# Altium schematic symbol library Capacitors.SchLib: 121 symbols (part 2 of 2)
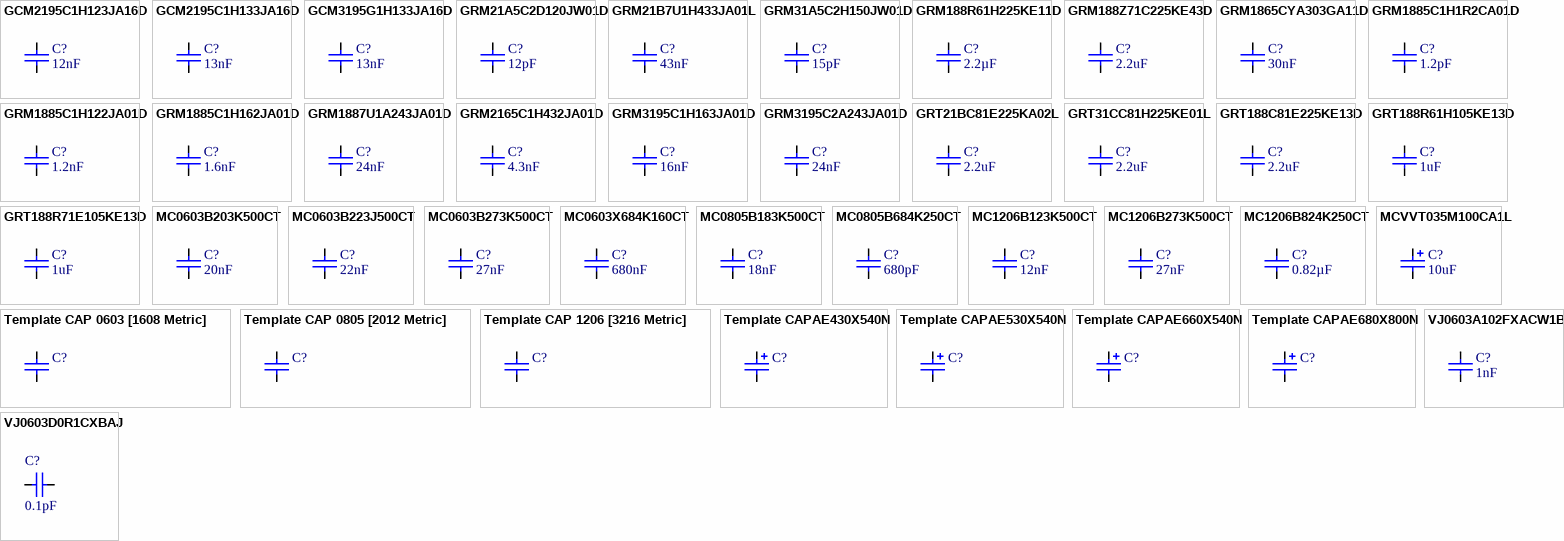
[diagram p4: symbols GCM2195C1H123JA16D to VJ0603D0R1CXBAJ]

## GRM31A5C2H150JW01D
designator C?, comment 15pF
CAP MLCC, 15pF, 25V, 1206 [3216 Metric], ±5%, X7R; Manufacturer: MURATA; Manufacturer Part Number: GRM31A5C2H150JW01D; Voltage: 500V; Dielectric: C0G / NP0; Value: 15pF; Package: 1206 [3216 Metric]; Supplier 1: Farnell; Supplier Part Number 1: 3340795; ComponentLink1Description: http://www.farnell.com/datasheets/2891925.pdf; ComponentLink1URL: https://lt.farnell.com/murata/grm31a5c2h150jw01d/cap-15pf-500v-mlcc-1206/dp/3340795; Tolerance: ± 5%; Mounting: SMD; Part Type: MLCC
footprint CAPC3216N (Chip Capacitor, Body 3.2x1.6mm, IPC Medium Density)
pins: 1, 2

## GRM188R61H225KE11D
designator C?, comment 2.2µF
CAP MLCC, 2.2 µF, 50V, 0603 [1608 Metric], ± 10%, X5R, GRM Series; Manufacturer: MURATA; Manufacturer Part Number: GRM188R61H225KE11D; Value: 2.2µF; Package: 0603 [1608 Metric]; Supplier 1: Farnell; Supplier Part Number 1: 2611925; ComponentLink1Description: Datasheet; ComponentLink1URL: https://lt.farnell.com/murata/grm188r61h225ke11d/cap-2-2-f-50v-10-x5r-0603/dp/2611925?st=capasitor; Voltage: 50V; Tolerance: ± 10%; Dielectric: X5R; Mounting: SMD; Part Type: MLCC
footprint CAPC1608N (Chip Capacitor, Body 1.6x0.8mm, Height 0.55mm, IPC Medium Density)
pins: 1, 2

## GRM188Z71C225KE43D
designator C?, comment 2.2uF
CAP MLCC, 2.2uF, 16V, 0603 [1608 Metric], ±10%, X7R; Manufacturer: MURATA; Manufacturer Part Number: GRM188Z71C225KE43D; Value: 2.2uF; Package: 0603 [1608 Metric]; Supplier 1: Farnell; Supplier Part Number 1: 3581383; ComponentLink1Description: Datasheet; ComponentLink1URL: https://4donline.ihs.com/images/VipMasterIC/IC/MURE/MURE-S-A0010565743/MURE-S-A0010565293-1.pdf?hkey=6D3A4C79FDBF58556ACFDE234799DDF0; Voltage: 16V; Tolerance: ± 10%; Dielectric: X7R; Mounting: SMD; Part Type: MLCC
footprint CAPC1608N (Chip Capacitor, Body 1.6x0.8mm, Height 0.55mm, IPC Medium Density)
pins: 1, 2

## GRM1865CYA303GA11D
designator C?, comment 30nF
CAP MLCC, 30nF, 35V, 0603 [1608 metric], ±2%, C0G; Manufacturer: Murata Electronics; Manufacturer Part Number: GRM1865CYA303GA11D; Dielectric: C0G (NP0); Value: 30nF; Package: 0603 [1608 Metric]; Supplier 1: Mouser; Supplier Part Number 1: 81-GRM1865CYA303GA1D; ComponentLink1Description: Datasheet; ComponentLink1URL: https://eu.mouser.com/datasheet/2/281/murata_03052018_GRM_Series_1-1310166.pdf; Voltage: 35V; Tolerance: 2%; Mounting: SMD; Part Type: MLCC
footprint CAPC1608N (Chip Capacitor, Body 1.6x0.8mm, Height 0.55mm, IPC Medium Density)
pins: 1, 2

## GRM1885C1H1R2CA01D
designator C?, comment 1.2pF
CAP MLCC, 1.2pF, 50V, 0603 [1608 Metric], ±0.25pF, X7R; Manufacturer: MULTICOMP; Manufacturer Part Number: GRM1885C1H1R2CA01D; Dielectric: C0G / NP0; Value: 1.2pF; Package: 0603 [1608 Metric]; Supplier 1: Farnell; Supplier Part Number 1: 2494217; ComponentLink1Description: http://www.farnell.com/datasheets/1955666.pdf; ComponentLink1URL: https://lt.farnell.com/murata/grm1885c1h1r2ca01d/cap-1-2pf-50v-c0g-np0-0603/dp/2494217; Voltage: 50V; Tolerance: ± 0.25pF; Mounting: SMD; Part Type: MLCC
footprint CAPC1608N (Chip Capacitor, Body 1.6x0.8mm, Height 0.55mm, IPC Medium Density)
pins: 1, 2

## GRM1885C1H122JA01D
designator C?, comment 1.2nF
CAP MLCC, 1.2nF, 50V, 0603 [1608 Metric], ±5%, C0G / NP0; Manufacturer: MURATA; Manufacturer Part Number: GRM1885C1H122JA01D; Value: 1.2nF; Package: 0603 [1608 Metric]; Supplier 1: Farnell; Supplier Part Number 1: 2688627; ComponentLink1Description: Datasheet; ComponentLink1URL: http://www.farnell.com/datasheets/2191627.pdf; Voltage: 50V; Tolerance: ± 5%; Dielectric: C0G / NP0; Mounting: SMD; Part Type: MLCC
footprint CAPC1608N (Chip Capacitor, Body 1.6x0.8mm, Height 0.55mm, IPC Medium Density)
pins: 1, 2

## GRM1885C1H162JA01D
designator C?, comment 1.6nF
CAP MLCC, 1.6nF, 50V, 0603 [1608 Metric], ±5%, C0G / NP0; Manufacturer: MURATA; Manufacturer Part Number: GRM1885C1H162JA01D; Value: 1.6nF; Package: 0603 [1608 Metric]; Supplier 1: Farnell; Supplier Part Number 1: 3582826; ComponentLink1Description: Datasheet; ComponentLink1URL: https://4donline.ihs.com/images/VipMasterIC/IC/MURE/MURE-S-A0010570236/MURE-S-A0010570623-1.pdf?hkey=6D3A4C79FDBF58556ACFDE234799DDF0; Voltage: 50V; Tolerance: ± 5%; Dielectric: C0G / NP0; Mounting: SMD; Part Type: MLCC
footprint CAPC1608N (Chip Capacitor, Body 1.6x0.8mm, Height 0.55mm, IPC Medium Density)
pins: 1, 2

## GRM1887U1A243JA01D
designator C?, comment 24nF
CAP MLCC, 24nF, 100V, 0603 [1608 Metric], ±5%, U2J; Manufacturer: Murata Electronics; Manufacturer Part Number: GRM1887U1A243JA01D; Voltage: 10V; Value: 24nF; Package: 0603 [1608 Metric]; Supplier 1: Mouser; Supplier Part Number 1: 81-GRM1887U1A243JA1D; ComponentLink1Description: Datasheet; ComponentLink1URL: https://eu.mouser.com/ProductDetail/Murata-Electronics/GRM1887U1A243JA01D/?qs=ui%252B2d9lVEI5YGHIEW3U78Q%3D%3D; Tolerance: ± 5%; Dielectric: U2J; Mounting: SMD; Part Type: MLCC
footprint CAPC1608N (Footprint not found)
pins: 1, 2

## GRM2165C1H432JA01D
designator C?, comment 4.3nF
CAP MLCC, 4.3nF, 250V, 0805 [2012 Metric], ±5%, C0G / NP0; Manufacturer: MURATA; Manufacturer Part Number: GRM2165C1H432JA01D; Voltage: 50V; Value: 4.3nF; Package: 0805 [2012 Metric]; Supplier 1: Farnell; Supplier Part Number 1: 3581388; ComponentLink1Description: Datasheet; ComponentLink1URL: https://4donline.ihs.com/images/VipMasterIC/IC/MURE/MURE-S-A0010861478/MURE-S-A0010860847-1.pdf?hkey=6D3A4C79FDBF58556ACFDE234799DDF0; Tolerance: ± 5%; Dielectric: C0G / NP0; Mounting: SMD; Part Type: MLCC
footprint CAPC2012N (Chip Capacitor, Body 2.0x1.25mm, IPC Medium Density)
pins: 1, 2

## GRM3195C1H163JA01D
designator C?, comment 16nF
CAP MLCC, 16nF, 25V, 1206 [3216 metric], ±5%, C0G (NP0); Manufacturer: Murata Electronics; Manufacturer Part Number: GRM3195C1H163JA01D; Voltage: 50V; Value: 16nF; Package: 1206 [3216 metric]; Supplier 1: Mouser; Supplier Part Number 1: 81-GRM3195C1H163JA1D; ComponentLink1Description: Datasheet; ComponentLink1URL: https://eu.mouser.com/ProductDetail/Murata-Electronics/GRM3195C1H163JA01D/?qs=h0WOCFF19UJX1ximIlpUQQ%3D%3D; Tolerance: ±5%; Dielectric: C0G (NP0)
footprint CAPC3216N (Chip Capacitor, Body 3.2x1.6mm, IPC Medium Density)
pins: 1, 2

## GRM3195C2A243JA01D
designator C?, comment 24nF
CAP MLCC, 24nF, 100V, 1206 [3216 Metric], ± 5%, C0G (NP0); Manufacturer: Murata; Manufacturer Part Number: GRM3195C2A243JA01D; Value: 24nF; Package: 1206 [3216 Metric]; Supplier 1: Mouser; Supplier Part Number 1: 81-GRM3195C2A243JA1D; ComponentLink1Description: Datasheet; ComponentLink1URL: https://eu.mouser.com/ProductDetail/Murata-Electronics/GRM3195C2A243JA01D/?qs=qkDYIeTQ%252BEk%2Fn3fDsYoCdQ%3D%3D; Voltage: 100V; Tolerance: ± 5%; Dielectric: C0G (NP0); Mounting: SMD; Part Type: MLCC
footprint CAPC3216N (Footprint not found)
pins: 1, 2

## GRT21BC81E225KA02L
designator C?, comment 2.2uF
CAP MLCC, 2.2uF, 25V, 0805 [2012 Metric], ±10%, X6S; Manufacturer: MURATA; Manufacturer Part Number: GRT21BC81E225KA02L; Value: 2.2uF; Package: 0805 [2012 Metric]; Supplier 1: Farnell; Supplier Part Number 1: 2672181RL; ComponentLink1Description: Datasheet; ComponentLink1URL: http://www.farnell.com/datasheets/2165980.pdf; Voltage: 25V; Tolerance: ± 10%; Dielectric: X6S; Mounting: SMD; Part Type: MLCC
footprint CAPC2012N (Chip Capacitor, Body 2.0x1.25mm, IPC Medium Density)
pins: 1, 2

## GRT31CC81H225KE01L
designator C?, comment 2.2uF
CAP MLCC, 2.2uF, 50V, 1206 [3216 Metric], ±10%, X6S; Manufacturer: MURATA; Manufacturer Part Number: GRT31CC81H225KE01L; Value: 2.2uF; Package: 1206 [3216 Metric]; Supplier 1: Farnell; Supplier Part Number 1: 2672206; ComponentLink1Description: Datasheet; ComponentLink1URL: http://www.farnell.com/datasheets/2166004.pdf; Voltage: 50V; Tolerance: ± 10%; Dielectric: X6S; Mounting: SMD; Part Type: MLCC
footprint CAPC3216N (Chip Capacitor, Body 3.2x1.6mm, IPC Medium Density)
pins: 1, 2

## GRT188C81E225KE13D
designator C?, comment 2.2uF
CAP MLCC, 2.2uF, 25V, 0603 [1608 Metric], ±10%, X6S; Manufacturer: MURATA; Manufacturer Part Number: GRT188C81E225KE13D; Value: 2.2uF; Package: 0603 [1608 Metric]; Supplier 1: Farnell; Supplier Part Number 1: 2672150; ComponentLink1Description: Datasheet; ComponentLink1URL: http://www.farnell.com/datasheets/2165949.pdf; Voltage: 25V; Tolerance: ± 10%; Dielectric: X6S; Mounting: SMD; Part Type: MLCC
footprint CAPC1608N (Chip Capacitor, Body 1.6x0.8mm, Height 0.55mm, IPC Medium Density)
pins: 1, 2

## GRT188R61H105KE13D
designator C?, comment 1uF
CAP MLCC, 1uF, 50V, 0603 [1608 Metric], ±10%, X5R; Manufacturer: MURATA; Manufacturer Part Number: GRT188R61H105KE13D; Value: 1uF; Package: 0603 [1608 Metric]; Supplier 1: Farnell; Supplier Part Number 1: 3581821; ComponentLink1Description: Datasheet; ComponentLink1URL: https://4donline.ihs.com/images/VipMasterIC/IC/MURE/MURE-S-A0010859401/MURE-S-A0010860617-1.pdf?hkey=6D3A4C79FDBF58556ACFDE234799DDF0; Voltage: 50V; Tolerance: ± 10%; Dielectric: X5R; Mounting: SMD; Part Type: MLCC
footprint CAPC1608N (Chip Capacitor, Body 1.6x0.8mm, Height 0.55mm, IPC Medium Density)
pins: 1, 2

## GRT188R71E105KE13D
designator C?, comment 1uF
CAP MLCC, 1uF, 25V, 0603 [1608 Metric], ±10%, X7R; Manufacturer: Murata; Manufacturer Part Number: GRT188R71E105KE13D; Dielectric: C0G / NP0; Value: 1uF; Package: 0603 [1608 Metric]; Supplier 1: Farnell; Supplier Part Number 1: 2672163; ComponentLink1Description: Datasheet; ComponentLink1URL: https://4donline.ihs.com/images/VipMasterIC/IC/MURE/MURE-S-A0010854894/MURE-S-A0010852229-1.pdf?hkey=6D3A4C79FDBF58556ACFDE234799DDF0; Voltage: 25V; Tolerance: ± 10%; Mounting: SMD; Part Type: MLCC
footprint CAPC1608N (Chip Capacitor, Body 1.6x0.8mm, Height 0.55mm, IPC Medium Density)
pins: 1, 2

## MC0603B203K500CT
designator C?, comment 20nF
CAP MLCC, 20nF, 50V, 0603 [1608 Metric], ±10%, X7R; Manufacturer: MULTICOMP PRO; Manufacturer Part Number: MC0603B203K500CT; Value: 20nF; Package: 0603 [1608 Metric]; Supplier 1: Farnell; Supplier Part Number 1: 2627435; ComponentLink1Description: Datasheet; ComponentLink1URL: http://www.farnell.com/datasheets/2861120.pdf; Voltage: 50V; Tolerance: ± 10%; Dielectric: X7R; Mounting: SMD; Part Type: MLCC
footprint CAPC1608N (Chip Capacitor, Body 1.6x0.8mm, Height 0.55mm, IPC Medium Density)
pins: 1, 2

## MC0603B223J500CT
designator C?, comment 22nF
CAP MLCC, 22nF, 50V, 0603 [1608 Metric], ±5%, X7R; Manufacturer: MULTICOMP PRO; Manufacturer Part Number: MC0603B223J500CT; Value: 22nF; Package: 0603 [1608 Metric]; Supplier 1: Farnell; Supplier Part Number 1: 2627436; ComponentLink1Description: Datasheet; ComponentLink1URL: http://www.farnell.com/datasheets/2861120.pdf; Voltage: 50V; Tolerance: ± 5%; Dielectric: X7R; Mounting: SMD; Part Type: MLCC
footprint CAPC1608N (Chip Capacitor, Body 1.6x0.8mm, Height 0.55mm, IPC Medium Density)
pins: 1, 2

## MC0603B273K500CT
designator C?, comment 27nF
CAP MLCC, 27nF, 50V, 0603 [1608 Metric], ±10%, X7R; Manufacturer: MULTICOMP PRO; Manufacturer Part Number: MC0603B273K500CT; Value: 27nF; Package: 0603 [1608 Metric]; Supplier 1: Farnell; Supplier Part Number 1: 1759111; ComponentLink1Description: Datasheet; ComponentLink1URL: http://www.farnell.com/datasheets/2860632.pdf; Voltage: 50V; Tolerance: ± 10%; Dielectric: X7R; Mounting: SMD; Part Type: MLCC
footprint CAPC1608N (Chip Capacitor, Body 1.6x0.8mm, Height 0.55mm, IPC Medium Density)
pins: 1, 2

## MC0603X684K160CT
designator C?, comment 680nF
CAP MLCC, 680nF, 16V, 0603 [1608 Metric], ±10%, X5R; Manufacturer: MULTICOMP PRO; Manufacturer Part Number: MC0603X684K160CT; Value: 680nF; Package: 0603 [1608 Metric]; Supplier 1: Farnell; Supplier Part Number 1: 2665946; ComponentLink1Description: Datasheet; ComponentLink1URL: https://lt.farnell.com/multicomp/mc0603x684k160ct/cap-0-68-f-16v-10-x5r-0603-reel/dp/2665946; Voltage: 16V; Tolerance: ± 10%; Dielectric: X5R; Mounting: SMD; Part Type: MLCC
footprint CAPC1608N (Chip Capacitor, Body 1.6x0.8mm, Height 0.55mm, IPC Medium Density)
pins: 1, 2

## MC0805B183K500CT
designator C?, comment 18nF
CAP MLCC, 18nF, 50V, 0805 [2012 Metric], ± 10%, X7R, MC Series; Manufacturer: MULTICOMP PRO; Manufacturer Part Number: MC0805B183K500CT; Value: 18nF; Package: 0805 [2012 Metric]; Supplier 1: Farnell; Supplier Part Number 1: 1759251; ComponentLink1Description: Datasheet; ComponentLink1URL: http://www.farnell.com/datasheets/1870456.pdf; Voltage: 50V; Tolerance: ± 10%; Dielectric: X7R; Mounting: SMD; Part Type: MLCC
footprint CAPC2012N (Chip Capacitor, Body 2.0x1.25mm, IPC Medium Density)
pins: 1, 2

## MC0805B684K250CT
designator C?, comment 680pF
CAP MLCC, 680nF, 25V, 0805 [2012 Metric], ±10%, X7R; Manufacturer: MULTICOMP PRO; Manufacturer Part Number: MC0805B684K250CT; Value: 680pF; Package: 0805 [2012 Metric]; Supplier 1: Farnell; Supplier Part Number 1: 2627483; ComponentLink1Description: http://www.farnell.com/datasheets/2861120.pdf; ComponentLink1URL: https://lt.farnell.com/multicomp/mc0805b684k250ct/cap-0-68-f-25v-10-x7r-0805/dp/2627483?st=cap%20mlcc,%20680nf,%2025v,%200805%20[2012%20metric],%20±10%25,%20x7r; Voltage: 25V; Tolerance: ± 10%; Dielectric: X7R; Mounting: SMD; Part Type: MLCC
footprint CAPC2012N (Chip Capacitor, Body 2.0x1.25mm, IPC Medium Density)
pins: 1, 2

## MC1206B123K500CT
designator C?, comment 12nF
CAP MLCC, 12nF, 50V, 1206 [3216 Metric], ± 10%, X7R; Manufacturer: MULTICOMP PRO; Manufacturer Part Number: MC1206B123K500CT; Value: 12nF; Package: 1206 [3216 Metric]; Supplier 1: Farnell; Supplier Part Number 1: 1759351; ComponentLink1Description: Datasheet; ComponentLink1URL: https://lt.farnell.com/multicomp/mc1206b123k500ct/cap-0-012-f-50v-10-x7r-1206/dp/1759351?st=1206; Voltage: 50V; Tolerance: ± 10%; Dielectric: X7R; Mounting: SMD; Part Type: MLCC
footprint CAPC3216N (Chip Capacitor, Body 3.2x1.6mm, IPC Medium Density)
pins: 1, 2

## MC1206B273K500CT
designator C?, comment 27nF
CAP MLCC, 27nF, 50V, 1206 [3216 Metric], ±10%, X7R; Manufacturer: MULTICOMP PRO; Manufacturer Part Number: MC1206B273K500CT; Value: 27nF; Package: 1206 [3216 Metric]; Supplier 1: Farnell; Supplier Part Number 1: 1759355; ComponentLink1Description: Datasheet; ComponentLink1URL: http://www.farnell.com/datasheets/2860632.pdf; Voltage: 50V; Tolerance: ± 10%; Dielectric: X7R; Mounting: SMD; Part Type: MLCC
footprint CAPC3216N (Chip Capacitor, Body 3.2x1.6mm, IPC Medium Density)
pins: 1, 2

## MC1206B824K250CT
designator C?, comment 0.82µF
CAP MLCC, 0.82µF, 25V, 1206 [3216 Metric], ±10%, X7R; Manufacturer: MULTICOMP PRO; Manufacturer Part Number: MC1206B824K250CT; Value: 0.82µF; Package: 1206 [3216 Metric]; Supplier 1: Farnell; Supplier Part Number 1: 1759326; ComponentLink1Description: http://www.farnell.com/datasheets/2860632.pdf; ComponentLink1URL: https://lt.farnell.com/multicomp/mc1206b824k250ct/cap-0-82-f-25v-10-x7r-1206/dp/1759326?st=cap%20mlcc,%20820nf,%2025v,%201206%20[3216%20metric],%20±10%25,%20x7r; Voltage: 25V; Tolerance: ± 10%; Dielectric: X7R; Mounting: SMD; Part Type: MLCC
footprint CAPC3216N (Chip Capacitor, Body 3.2x1.6mm, IPC Medium Density)
pins: 1, 2

## MCVVT035M100CA1L
designator C?, comment 10uF
CAP Aluminium Electrolytic, 10uF, 35V, 4.3mm L x 4.3mm W x W 5.4mm H; Manufacturer: MULTICOMP PRO; Manufacturer Part Number: MCVVT035M100CA1L; Value: 10uF; Package: 4.3mm L x 4.3mm W x W 5.4mm H; Supplier 1: Farnell; Supplier Part Number 1: 2611379; ComponentLink1Description: Datasheet; ComponentLink1URL: http://www.farnell.com/datasheets/2873546.pdf; Voltage: 35V; Dielectric: Aluminium; Mounting: SMD; Part Type: Electrolytic
footprint CAPAE430X540N (Capacitor, Aluminium Electrolytric, 4.3mm L X 4.3mm W X 5.4mm H, IPC Medium Density)
pins: 1, 2

## Template CAP 0603 [1608 Metric]
designator C?
CAP MLCC, 100nF, 25V, 0603 [1608 Metric], ±10%, X7R; Package: 0603 [1608 Metric]; ComponentLink1Description: Datasheet; Mounting: SMD; Part Type: MLCC
footprint CAPC1608N (Chip Capacitor, Body 1.6x0.8mm, Height 0.55mm, IPC Medium Density)
pins: 1, 2

## Template CAP 0805 [2012 Metric]
designator C?
CAP MLCC, 100nF, 25V, 0805 [2012 Metric], ±10%, X7R; Package: 0805 [2012 Metric]; ComponentLink1Description: Datasheet; Mounting: SMD; Part Type: MLCC
footprint CAPC2012N (Chip Capacitor, Body 2.0x1.25mm, IPC Medium Density)
pins: 1, 2

## Template CAP 1206 [3216 Metric]
designator C?
CAP MLCC, 100nF, 25V, 1206 [3216 Metric], ±10%, X7R; Package: 1206 [3216 Metric]; ComponentLink1Description: Datasheet; Mounting: SMD; Part Type: MLCC
footprint CAPC3216N (Chip Capacitor, Body 3.2x1.6mm, IPC Medium Density)
pins: 1, 2

## Template CAPAE430X540N
designator C?
CAP Aluminium Electrolytic, 10uF, 35V, 4.3mm L x 4.3mm W x W 5.4mm H; Package: 4.3mm L x 4.3mm W x W 5.4mm H; ComponentLink1Description: Datasheet; Dielectric: Aluminium; Mounting: SMD; Part Type: Electrolytic
footprint CAPAE430X540N (Capacitor, Aluminium Electrolytric, 4.3mm L X 4.3mm W X 5.4mm H, IPC Medium Density)
pins: 1, 2

## Template CAPAE530X540N
designator C?
CAP Aluminium Electrolytic, 10uF, 35V, 5.3mm L X 5.3mm W X 5.4mm H; Package: 5.3mm L X 5.3mm W X 5.4mm H; ComponentLink1Description: Datasheet; Dielectric: Aluminium; Mounting: SMD; Part Type: Electrolytic
footprint CAPAE530X540N (Capacitor, Aluminium Electrolytric, 5.3mm L X 5.3mm W X 5.4mm H, IPC Medium Density)
pins: 1, 2

## Template CAPAE660X540N
designator C?
CAP Aluminium Electrolytic, 10uF, 35V, 6.6mm L X 6.6mm W X 5.4mm H; Package: 6.6mm L X 6.6mm W X 5.4mm H; ComponentLink1Description: Datasheet; Dielectric: Aluminium; Mounting: SMD; Part Type: Electrolytic
footprint CAPAE660X540N (Capacitor, Aluminium Electrolytric, 6.6mm L X 6.6mm W X 5.4mm H, IPC Medium Density)
pins: 1, 2

## Template CAPAE680X800N
designator C?
CAP Aluminium Electrolytic, 10uF, 35V, 6.8mm L X 6.8mm W X 8mm H; Package: 6.8mm L X 6.8mm W X 8mm H; ComponentLink1Description: Datasheet; Dielectric: Aluminium; Mounting: SMD; Part Type: Electrolytic
footprint CAPAE680X800N (Capacitor, Aluminium Electrolytric, 6.8mm L X 6.8mm W X 8mm H, IPC Medium Density)
pins: 1, 2

## VJ0603A102FXACW1BC
designator C?, comment 1nF
CAP MLCC, 1nF, 50 V, 0603 [1608 Metric], ± 1%, C0G / NP0, VJ Series; Manufacturer: VISHAY; Manufacturer Part Number: VJ0603A102FXACW1BC; Voltage: 50V; Value: 1nF; Package: 0603 [1608 Metric]; Supplier 1: FARNELL; Supplier Part Number 1: 2896361; ComponentLink1Description: http://www.farnell.com/datasheets/2620235.pdf; ComponentLink1URL: https://lt.farnell.com/vishay/vj0603a102fxacw1bc/cap-1000pf-50v-1-c0g-np0-0603/dp/2896361?st=1nF; Tolerance: ± 1%; Dielectric: C0G / NP0; Mounting: SMD; Part Type: MLCC
footprint CAPC1608N (Chip Capacitor, Body 1.6x0.8mm, Height 0.55mm, IPC Medium Density)
pins: 1, 2

## VJ0603D0R1CXBAJ
designator C?, comment 0.1pF
CAP MLCC, 0.1pF, 100V, 0603 [1608 Metric], ±0.25pF, C0G (NP0); Manufacturer: Vishay / Vitramon; Manufacturer Part Number: VJ0603D0R1CXBAJ; Voltage: 100 VDC; Value: 0.1pF; Supplier 1: Mouser; Supplier Part Number 1: 77-VJ0603D0R1CXBAJ; Tollerance: ±0.25pF; Package: 0603 [1608 Metric]; Part Type: High Frequency MLCC; ComponentLink1Description: Datasheet; ComponentLink1URL: https://eu.mouser.com/datasheet/2/427/vjhifreq-1391225.pdf; Mounting: SMD/SMT; Dialectric: C0G (NP0)
footprint RESC1608N (Chip Resistor, Body 1.6x0.8mm, IPC Medium Density)
pins: 1, 2
1 alternate drawing of the same symbol

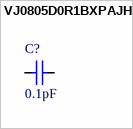
[diagram p3: symbol VJ0805D0R1BXPAJHT]

## VJ0805D0R1BXPAJHT
designator C?, comment 0.1pF
CAP MLCC, 0.1pF, 200V, 0805 [2012 Metric], ±0.1pF, C0G (NP0); Manufacturer: Vishay / Vitramon; Manufacturer Part Number: VJ0805D0R1BXPAJHT; Voltage: 250 VDC; Value: 0.1pF; Supplier 1: Mouser; Supplier Part Number 1: 77-VJ0805D0R1BXPAJHT; Tollerance: ±0.1pF; Package: 0805 [2012 Metric]; Part Type: High Temperature MLCC; ComponentLink1Description: Datasheet; ComponentLink1URL: https://eu.mouser.com/datasheet/2/427/vjhifreqht-1128230.pdf; Mounting: SMD/SMT; Dialectric: C0G (NP0)
footprint CAPC2012N (Chip Capacitor, Body 2.0x1.25mm, IPC Medium Density)
pins: 1, 2
1 alternate drawing of the same symbol